# EAGLE library part INA260AIPW (library X16-Pi-Shield)
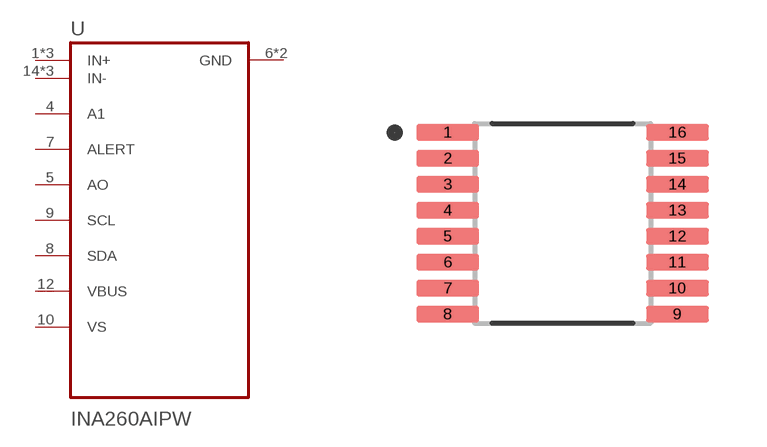
[diagram p8: symbol with the pads of SOP65P640X120-16N; footprint SOP65P640X120-16N]

Designator prefix U

## INA260AIPW  [SOP65P640X120-16N]
1  IN+  in
2  IN+  in
3  IN+  in
4  A1
5  AO
6  GND  pwr
7  ALERT
8  SDA
9  SCL
10  VS
11  GND  pwr
12  VBUS
14  IN-  in
15  IN-  in
16  IN-  in

## Footprint SOP65P640X120-16N (pad centres in mm)
smd 1.57 x 0.41: 1 -2.87,2.275; 2 -2.87,1.625; 3 -2.87,0.975; 4 -2.87,0.325; 5 -2.87,-0.325; 6 -2.87,-0.975; 7 -2.87,-1.625; 8 -2.87,-2.275; 9 2.87,-2.275; 10 2.87,-1.625; 11 2.87,-0.975; 12 2.87,-0.325; 13 2.87,0.325; 14 2.87,0.975; 15 2.87,1.625; 16 2.87,2.275